# EAGLE library part PIC16F88-SSOP (library IC)
PIC 16F8x 8-Bit PIC16F8X Family Pin Compatible : PIC16F83, PIC16CR83, PIC16F84A, PIC16CR84 http://search.digikey.com/scripts/DkSearch/dksus.dll?Detail&name=PIC16F88-I/SS-ND
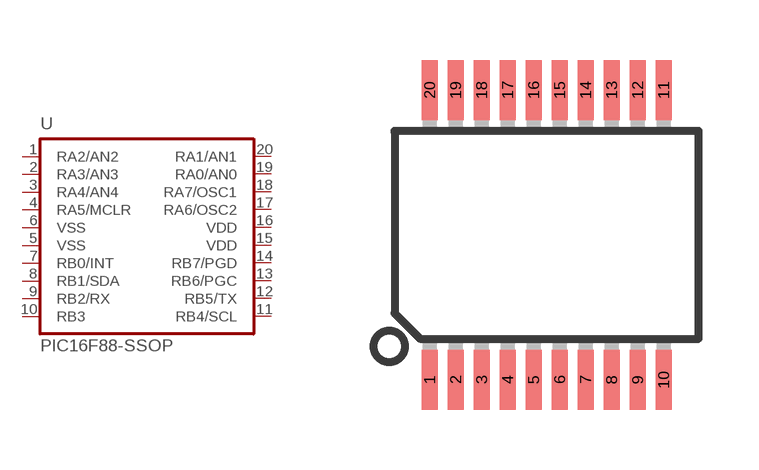
[diagram p117: symbol with the pads of SSOP20; footprint SSOP20]

Designator prefix U

## PIC16F88-SSOP-SSOP20  [SSOP20]
1  RA2/AN2
2  RA3/AN3
3  RA4/AN4
4  RA5/MCLR  in
5  VSS  pwr
6  VSS  pwr
7  RB0/INT
8  RB1/SDA
9  RB2/RX
10  RB3
11  RB4/SCL
12  RB5/TX
13  RB6/PGC
14  RB7/PGD
15  VDD  pwr
16  VDD  pwr
17  RA6/OSC2
18  RA7/OSC1
19  RA0/AN0
20  RA1/AN1

## Footprint SSOP20 (pad centres in mm)
Shrink Small Outline Package package type SS
smd 0.4 x 1.5: 1 -2.925,-3.625; 2 -2.275,-3.625; 3 -1.625,-3.625; 4 -0.975,-3.625; 5 -0.325,-3.625; 6 0.325,-3.625; 7 0.975,-3.625; 8 1.625,-3.625; 9 2.275,-3.625; 10 2.925,-3.625; 11 2.925,3.625; 12 2.275,3.625; 13 1.625,3.625; 14 0.975,3.625; 15 0.325,3.625; 16 -0.325,3.625; 17 -0.975,3.625; 18 -1.625,3.625; 19 -2.275,3.625; 20 -2.925,3.625